# Altium footprint library CAPC4563X200.PcbLib: 3 footprints
Each footprint in its own frame and in the unit in brackets; x right, y up, seen from the top. Pads: shape width x height; smd on the part's side, far side on the other; paste and mask are expansions set on the pad; w line width, h text height; cw(c..) or ccw(c..) is an arc to the next point about the centre after c.
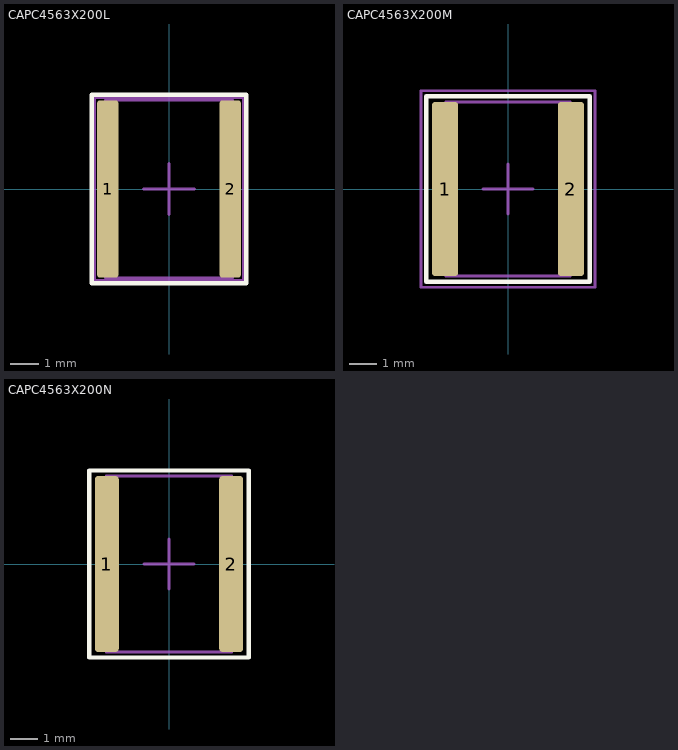
[diagram p0: the footprints below, top view; thin cyan lines are the x and y axes]

## CAPC4563X200L [mm] "Capacitors, Chip, Non-polarized"
height 2.3
pads (2):
  rrect25% 0.75x6.3 smd: 1(-2.175,0) 2(2.175,0)
Top Overlay:
  lines w0.16: -2.75,-3.35 2.75,-3.35 2.75,3.35 -2.75,3.35 -2.75,-3.35
Top Component Center:
  lines w0.1: -0.9,0 0.9,0 ; 0,-0.9 0,0.9
Top Courtyard:
  lines w0.1: -2.65,-3.25 2.65,-3.25 2.65,3.25 -2.65,3.25 -2.65,-3.25
Top Assembly:
  lines w0.1: -2.25,-3.15 2.25,-3.15 2.25,3.15 -2.25,3.15 -2.25,-3.15
  text ".Designator" at 0,0 h1
3D body "CAPC4563X200L.STEP": height 2, standoff 0, extent -2.25,-3.15 2.25,3.15

## CAPC4563X200M [mm] "Capacitors, Chip, Non-polarized"
height 2.3
pads (2):
  rrect25% 0.95x6.3 smd: 1(-2.275,0) 2(2.275,0)
Top Overlay:
  lines w0.16: -2.95,-3.35 2.95,-3.35 2.95,3.35 -2.95,3.35 -2.95,-3.35
Top Component Center:
  lines w0.1: -0.9,0 0.9,0 ; 0,-0.9 0,0.9
Top Courtyard:
  lines w0.1: -3.15,-3.55 3.15,-3.55 3.15,3.55 -3.15,3.55 -3.15,-3.55
Top Assembly:
  lines w0.1: -2.25,-3.15 2.25,-3.15 2.25,3.15 -2.25,3.15 -2.25,-3.15
  text ".Designator" at 0,0 h1
3D body "CAPC4563X200M.STEP": height 2, standoff 0, extent -2.25,-3.15 2.25,3.15

## CAPC4563X200N [mm] "Capacitors, Chip, Non-polarized"
height 2.3
pads (2):
  rrect25% 0.85x6.3 smd: 1(-2.225,0) 2(2.225,0)
Top Overlay:
  lines w0.16: -2.85,-3.35 2.85,-3.35 2.85,3.35 -2.85,3.35 -2.85,-3.35
Top Component Center:
  lines w0.1: -0.9,0 0.9,0 ; 0,-0.9 0,0.9
Top Courtyard:
  lines w0.1: -2.85,-3.35 2.85,-3.35 2.85,3.35 -2.85,3.35 -2.85,-3.35
Top Assembly:
  lines w0.1: -2.25,-3.15 2.25,-3.15 2.25,3.15 -2.25,3.15 -2.25,-3.15
  text ".Designator" at 0,0 h1
3D body "CAPC4563X200N.STEP": height 2, standoff 0, extent -2.25,-3.15 2.25,3.15